# Altium integrated library 1N4148.IntLib: 1 symbol
Pins are listed as number, name and electrical type; pins without a type are passive.

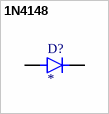
[diagram p0: symbol 1N4148]

## 1N4148
designator D?
Small Signal Fast Switching Diodes; MP: 1N4148; Price: None; Availability: Unavailable; Value: *; Package: None
footprint DIOAD829W49L456D191
pins: A, C